# Altium integrated library RJE23-188-1317-T.IntLib: 1 symbol
Pins are listed as number, name and electrical type; pins without a type are passive.

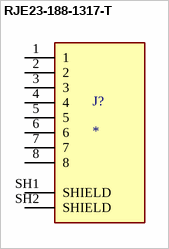
[diagram p0: symbol RJE23-188-1317-T]

## RJE23-188-1317-T
designator J?
MF: Amphenol; MP: RJE23-188-1317-T; Package: None; Price: None; Value: *; Availability: Unavailable
footprint AMPHENOL_RJE23-188-1317-T
pins: 1, 2, 3, 4, 5, 6, 7, 8, SH1 SHIELD, SH2 SHIELD